# Altium schematic symbol library BW1098OAK_R0M0E0.SchLib: 4 symbols
Pins are listed as number, name and electrical type; pins without a type are passive.

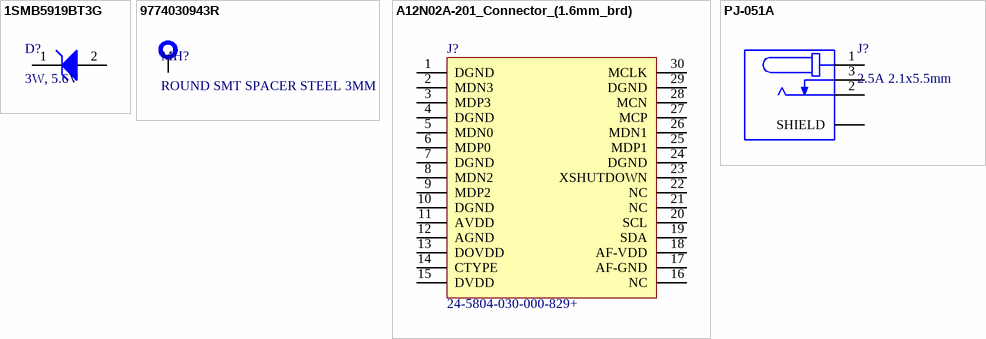
[diagram p0: symbols 1SMB5919BT3G to PJ-051A]

## 1SMB5919BT3G
designator D?, comment 3W, 5.6V
DIODE ZENER 5.6V 3W SMB; Manufacturer 1: ON Semiconductor; Manufacturer Part Number 1: 1SMB5919BT3G; Description: Diode Zener Single 5.6V 5% 3W 2-Pin SMB T/R; Material: Plastic; Tolerance: 5%; Max Reverse Leakage Current: 5uA; Impedance: 2R; Element Configuration: Single; Forward Voltage: 1.5V; Power Dissipation: 550mW; Zener Current: 267mA; Test Current: 66.9mA; Breakdown Voltage: 5.88V; ESD Protection: Yes; Supplier 1: Digi-Key; RoHS: Yes; Category: Zener Diodes; Stock 1: 59012; Pricing 1: 2500=0.08908, 5000=0.08384, 12500=0.07860, 25000=0.07598, 62500=0.07074 (USD); Case/Package: SMB; Number of Pins: 2; Contact Plating: Tin,Matte; Min Operating Temperature: -65°C; Max Operating Temperature: 150°C; Package Quantity: 1; Packaging: Tape and Reel; Max Power Dissipation: 3W; Voltage Tolerance: 5%; Zener Voltage: 5.6V; Working Voltage: 5.6V; Peak Reverse Current: 5uA; Voltage Rating (DC): 5.6V; Power Rating: 3W; Length: 4.32mm; Height: 2.13mm; Width: 3.56mm; Radiation Hardening: No; Lead Free: Lead Free; Halogen Free: Halogen Free; REACH SVHC: No SVHC; ComponentLink1URL: https://datasheet.ciiva.com/27747/1308331-27747654.pdf?src-supplier=Jameco; ComponentLink1Description: https://datasheet.ciiva.com/27747/1308331-27747654.pdf?src-supplier=Jameco; ComponentLink2URL: https://datasheet.ciiva.com/1182/1smb5913bt3-d-1182657.pdf?src-supplier=Element14; ComponentLink2Description: https://datasheet.ciiva.com/1182/1smb5913bt3-d-1182657.pdf?src-supplier=Element14; ComponentLink3URL: https://datasheet.ciiva.com/1182/1smb5913bt3-d-1182658.pdf?src-supplier=Element14; ComponentLink3Description: https://datasheet.ciiva.com/1182/1smb5913bt3-d-1182658.pdf?src-supplier=Element14; ComponentLink4URL: https://datasheet.ciiva.com/895/1smb5913bt3-d-895203.pdf?src-supplier=Digi-Key; ComponentLink4Description: https://datasheet.ciiva.com/895/1smb5913bt3-d-895203.pdf?src-supplier=Digi-Key; ComponentLink5URL: https://datasheet.ciiva.com/895/1smb5913bt3-d-895204.pdf?src-supplier=Digi-Key; ComponentLink5Description: https://datasheet.ciiva.com/895/1smb5913bt3-d-895204.pdf?src-supplier=Digi-Key; ComponentLink6URL: https://datasheet.ciiva.com/895/1smb5913bt3-d-895205.pdf?src-supplier=Digi-Key; ComponentLink6Description: https://datasheet.ciiva.com/895/1smb5913bt3-d-895205.pdf?src-supplier=Digi-Key; ComponentLink7URL: https://datasheet.ciiva.com/15198/getdatasheetpartid-311040-15198695.pdf?src-supplier=Verical; ComponentLink7Description: https://datasheet.ciiva.com/15198/getdatasheetpartid-311040-15198695.pdf?src-supplier=Verical; ComponentLink8URL: https://datasheet.ciiva.com/16311/1smb5913bt3-d-16311847.pdf?src-supplier=Future+Electronics; ComponentLink8Description: https://datasheet.ciiva.com/16311/1smb5913bt3-d-16311847.pdf?src-supplier=Future+Electronics; ComponentLink9URL: https://datasheet.ciiva.com/16472/1smb5913bt3-d-16472779.pdf?src-supplier=Avnet+Asia; ComponentLink9Description: https://datasheet.ciiva.com/16472/1smb5913bt3-d-16472779.pdf?src-supplier=Avnet+Asia; Supplier 2: Avnet; Supplier 3: Newark; Supplier 4: LCSC; Supplier 5: Avnet Europe; Supplier Part Number 1: 1SMB5919BT3GOSTR-ND; Supplier Part Number 3: 67R1406; Supplier Part Number 4: C70260; Supplier Part Number 5: 1SMB5919BT3G; Supplier Part Number 2: 1SMB5919BT3G
footprint 1SMB5919BT3G (Molded, 2-Leads, Body 4.6x3.95mm)
pins: 1 K, 2 A

## 9774030943R
designator MH?, comment ROUND SMT SPACER STEEL 3MM
ROUND SPACER STEEL 3MM, NO THREADING; Manufacturer 1: Würth Elektronik; Manufacturer Part Number 1: 9774030943R; Plating: Tin; Threaded/Unthreaded: Unthreaded; Gender: Female, Female; Supplier 1: Digi-Key; Category: Spacers, Standoffs; Stock 1: 858; Pricing 1: 1=0.81000, 10=0.75600, 50=0.70200, 100=0.62100 (USD); Material: Steel; ComponentLink1URL: http://www.farnell.com/datasheets/2305586.pdf?src-supplier=Farnell; ComponentLink1Description: http://www.farnell.com/datasheets/2305586.pdf?src-supplier=Farnell; ComponentLink2URL: https://katalog.we-online.de/em/datasheet/9774030943.pdf?src-supplier=Digi-Key; ComponentLink2Description: https://katalog.we-online.de/em/datasheet/9774030943.pdf?src-supplier=Digi-Key; ComponentLink3URL: http://www.farnell.com/datasheets/2305586.pdf?src-supplier=Newark; ComponentLink3Description: http://www.farnell.com/datasheets/2305586.pdf?src-supplier=Newark; ComponentLink4URL: http://www.farnell.com/datasheets/2305586.pdf?src-supplier=Element14; ComponentLink4Description: http://www.farnell.com/datasheets/2305586.pdf?src-supplier=Element14; ComponentLink5URL: http://datasheet.octopart.com/9774030943R-W%C3%BCrth-Elektronik-datasheet-83550067.pdf?src-supplier=Newark; ComponentLink5Description: http://datasheet.octopart.com/9774030943R-W%C3%BCrth-Elektronik-datasheet-83550067.pdf?src-supplier=Newark; Supplier 2: Digi-Key; Supplier 3: Newark; Supplier 4: Mouser; Supplier Part Number 4: 710-9774030943R; Supplier Part Number 3: 22AC5240; Supplier Part Number 2: 732-10940-2-ND; Supplier Part Number 1: 732-10940-1-ND
footprint 9774030943R w/ bottom pad (3mm spacer (no threading) w/ bottom pad)
pins: 1

## A12N02A-201_Connector_(1.6mm_brd)
designator J?, comment 24-5804-030-000-829+
CONN Series 5804 board to board 0.4mm pitch 30 way connector; Manufacturer 1: Kyocera International Electronic Components; Manufacturer Part Number 1: 245804030000829+; MAN: AVX/KYOCERA; MAN PN: 24-5804-030-000-829+; Supplier 1: Digi-Key; Stock 1: 11469; Pricing 1: 1=1.69000, 10=1.53600, 25=1.44200, 50=1.37940, 100=1.31670, 250=1.19132, 500=1.09726, 1000=0.94050 (USD); RoHS: Yes; ComponentLink1URL: http://global.kyocera.com/prdct/electro/product/pdf/5804.pdf?src-supplier=Digi-Key; ComponentLink1Description: http://global.kyocera.com/prdct/electro/product/pdf/5804.pdf?src-supplier=Digi-Key; Supplier Part Number 1: 478-12013-1-ND
footprint A12N02A-201_1.6mmbrd_MatedModule (connector: 24-5804-030-000-829+ (1.4mm height w/ module mated))
pins: 1 DGND, 2 MDN3, 3 MDP3, 4 DGND, 5 MDN0, 6 MDP0, 7 DGND, 8 MDN2, 9 MDP2, 10 DGND, 11 AVDD, 12 AGND, 13 DOVDD, 14 CTYPE, 15 DVDD, 16 NC, 17 AF-GND, 18 AF-VDD, 19 SDA, 20 SCL, 21 NC, 22 NC, 23 XSHUTDOWN, 24 DGND, 25 MDP1, 26 MDN1, 27 MCP, 28 MCN, 29 DGND, 30 MCLK

## PJ-051A
designator J?, comment 2.5A 2.1x5.5mm
CONN PWR JACK 2X5.5MM SOLDER; Manufacturer 1: CUI; Manufacturer Part Number 1: PJ-051A; Shielding: Shielded; Gender: Male; Number of Conductors: 2; Voltage Rating: 24V; Insulation Resistance: 100MR; Supplier 1: Digi-Key; RoHS: Yes; Category: Connectors; Stock 1: 9320; Pricing 1: 1=0.80000, 10=0.70600, 25=0.66480, 50=0.63720, 100=0.60940, 250=0.55400, 500=0.49860, 1000=0.44320, 2500=0.40165 (USD); Mount: Through Hole; Color: Black; Contact Material: Copper,Brass; Housing Material: Thermoplastic; Contact Plating: Nickel; Housing Color: Black; Min Operating Temperature: -25°C; Max Operating Temperature: 85°C; Current Rating: 2.5A; Connector Type: Jack; Package Quantity: 500; Termination: Solder; Contact Gender: Male; Orientation: Horizontal; Lead Free: Lead Free; Flammability Rating: UL94 V-0; ComponentLink1URL: http://www.mouser.com/ds/2/670/PJ-051A-524188.pdf?src-supplier=Mouser; ComponentLink1Description: http://www.mouser.com/ds/2/670/PJ-051A-524188.pdf?src-supplier=Mouser; ComponentLink2URL: https://www.cui.com/product/resource/digikeypdf/pj-051a.pdf?src-supplier=Digi-Key; ComponentLink2Description: https://www.cui.com/product/resource/digikeypdf/pj-051a.pdf?src-supplier=Digi-Key; Supplier 2: Onlinecomponents.com; Supplier 3: Mouser; Supplier 4: Arrow Electronics; Supplier Part Number 3: 490-PJ-051A; Supplier Part Number 1: CP-051A-ND; Supplier Part Number 2: PJ-051A; Supplier Part Number 4: PJ-051A
footprint PJ-051A (2.5A RA 2.1x5.5mm)
pins: 1, 2, 3, 5 SHIELD, 6 SHIELD